# Altium schematic symbol library lt1661.SchLib: 2 symbols
Pins are listed as number, name and electrical type; pins without a type are passive.

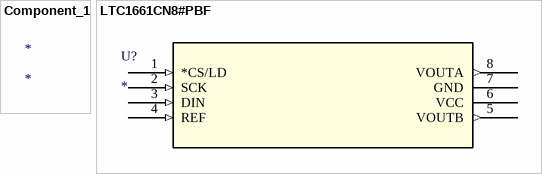
[diagram p0: symbols Component_1 to LTC1661CN8#PBF]

## Component_1
designator *

## LTC1661CN8#PBF
designator U?
Imported; Manufacturer_Part_Number: LTC1661CN8#PBF; Vendor: Linear Technology; Value: Value; Type: Type; RefDes: RefDes
footprint PDIP-8_N
pins: 1 *CS/LD (in), 2 SCK (in), 3 DIN (in), 4 REF (in), 5 VOUTB (out), 6 VCC (power), 7 GND (power), 8 VOUTA (out)